# EAGLE library part 615008143721 (library Eagle_WR-MJ (rev23b))
WR-MJ Modular Jack Horizontal Plastic 8P8C Tab Down KIND PROPERTIES Quality Class:500 Mating cycles General Information Operating Temperature:-40 up to +85 °C Compliance: RoHS Electrical Properties IR 1:1.5A Working Voltage:120V (AC) Withstanding Voltage:1000V (AC) Contact Resistance:20mΩ RISO:500 MΩ Material Properties Insulator MateriaL:PBT Insulator Flammability Rating:UL94 V-0 Color:Black Contact Material Copper Alloy Contact Plating:Gold Contact Type:Stamped Packaging Properties Packaging:Tray <https://www.we-online.com/catalog/media/o33133v209%20Family_WR-MJ_615008143721.jpg> Details see: https://www.we-online.com/catalog/en/MJ_HORIZONTAL_PLASTIC_8P8C_TAB_DOWN/ Updated by Yingchun,Shan 2020-01-06 2020 (C) Würth Elektronik
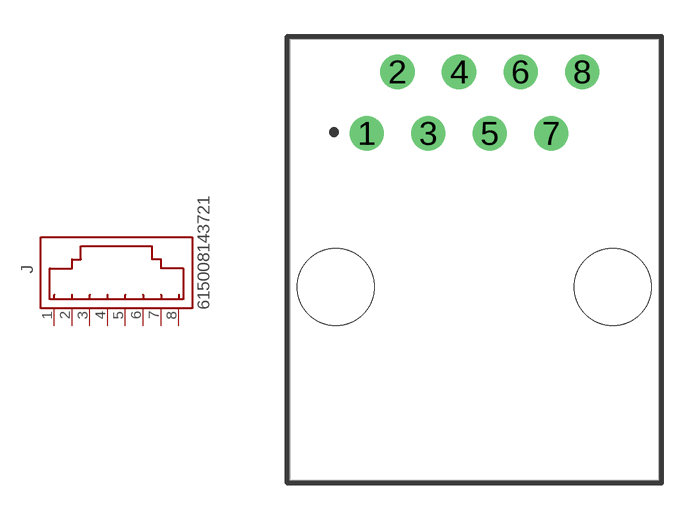
[diagram p14: symbol with the pads of 615008143721; footprint 615008143721]

Designator prefix J

## 615008143721 (DATASHEET-URL: https://www.we-online.com/redexpert/spec/615008143721?ae; MOUNT: THT; PART-NUMBER: 615008143721; TYPE: Horizontal; VALUE: 615008143721; XPXC: 8P8C)  [615008143721]
1  8  pas
2  7  pas
3  6  pas
4  5  pas
5  4  pas
6  3  pas
7  2  pas
8  1  pas

## Footprint 615008143721 (pad centres in mm)
WR-MJ Modular Jack Horizontal Plastic 8P8C Tab Down, 8 Pins
drill 0.9: 1 -4.445,5.22; 2 -3.175,7.76; 3 -1.905,5.22; 4 -0.635,7.76; 5 0.635,5.22; 6 1.905,7.76; 7 3.175,5.22; 8 4.445,7.76
hole 3.17 at -5.715,-1.13
hole 3.17 at 5.715,-1.13